# EAGLE library part NL17SZ11DBVT1G (library NL17SZ11DBVT1G)
High Speed: tPD = 2.4 ns (Typ) @ VCC = 5.0 V; Designed for 1.65 V to 5.5 V VCC Operation; Low Power Dissipation: ICC = 1 A (Max) at TA = 25C; 24 mA Balanced Output Source and Sink Capability; Balanced Propagation Delays; Over-Voltage Tolerant Inputs and Outputs; UltraSmall Packages; These are PbFree Devices Source: Datasheet <https://www.onsemi.com/pub/Collateral/NL17SZ11-D.PDF>
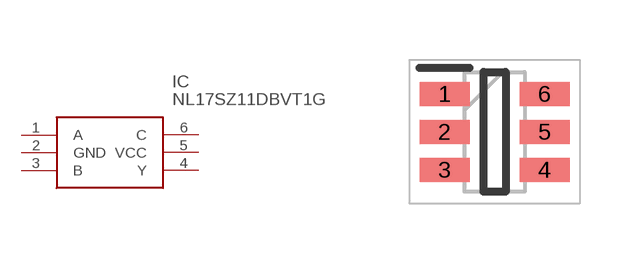
[diagram p0: symbol with the pads of SOT95P275X110-6N; footprint SOT95P275X110-6N]

Designator prefix IC

## NL17SZ11DBVT1G (Description: High Speed: tPD = 2.4 ns (Typ) @ VCC = 5.0 V; Designed for 1.65 V to 5.5 V VCC Operation; Low Power Dissipation: ICC = 1 A (Max) at TA = 25C; 24 mA Balanced Output Source and Sink Capability; Balanced Propagation Delays; Over-Voltage Tolerant Inputs and Outputs; UltraSmall Packages; These are PbFree Devices; Height: 1.1mm; Manufacturer_Name: onsemi; Manufacturer_Part_Number: NL17SZ11DBVT1G; Mouser_Part_Number: 863-NL17SZ11DBVT1G; Mouser_Price-Stock: https://www.mouser.co.uk/ProductDetail/onsemi/NL17SZ11DBVT1G?qs=xZ%2FP%252Ba9zWqZnwqtKbSYP0Q%3D%3D)  [SOT95P275X110-6N]
1  A
2  GND
3  B
4  Y
5  VCC
6  C

## Footprint SOT95P275X110-6N (pad centres in mm)
SC−74_
smd 1.25 x 0.6: 1 -1.25,0.95; 2 -1.25,0; 3 -1.25,-0.95; 4 1.25,-0.95; 5 1.25,0; 6 1.25,0.95